# Altium schematic symbol library SGM8956XTDB8G.SchLib: 1 symbol
Pins are listed as number, name and electrical type; pins without a type are passive.

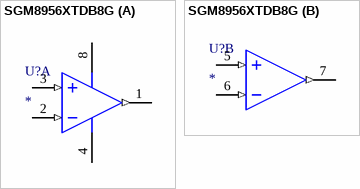
[diagram p0: symbol SGM8956XTDB8G]

## SGM8956XTDB8G
designator U?
1.8V, Micro-Power CMOS  Zero-Drift Operational Amplifiers
part A pins: 1 OUT A (out), 2 -INA (in), 3 +INA (in), 4 -VS (power), 8 +VS (power)
part B pins: 5 +INB (in), 6 -INB (in), 7 OUT B (out)